# EAGLE library part TSL2561T (library lpatiny)
The TSL2560 and TSL2561 are light-to-digital converters that transform light intensity to a digital signal output capable of direct I 2 C (TSL2561) or SMBus (TSL2560) interface.
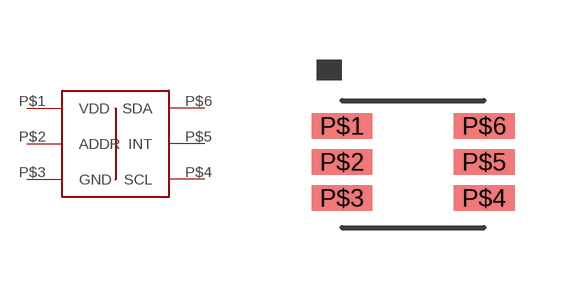
[diagram p25: symbol with the pads of TMB-6; footprint TMB-6]

Designator prefix -

## TSL2561T  [TMB-6]
P$1  VDD
P$2  ADDR
P$3  GND
P$4  SCL
P$5  INT
P$6  SDA

## Footprint TMB-6 (pad centres in mm)
smd 1.524 x 0.635: P$1 0,0; P$2 0,-0.899; P$3 0,-1.801; P$4 3.556,-1.801; P$5 3.556,-0.899; P$6 3.556,0